# EAGLE library part 64902221022 (library Wire_to_Board_Connectors_rev15d)
WR-MPC4-4.20mm Male Dual Row Angled Header with Mounting Flanges for Screw-in Retention,22 pins=>Code : Con_WTB_MPC4_2_PCB_64902221022 <http://katalog.we-online.de/media/thumbs2/eican/thb_Con_WTB_MPC4_2_PCB_6490xx21022_pf2.jpg> Details see: http://katalog.we-online.de/en/em/649_0xx_210_22 Created 2014-06-06, Karrer Zheng 2014 (C) Würth Elektronik
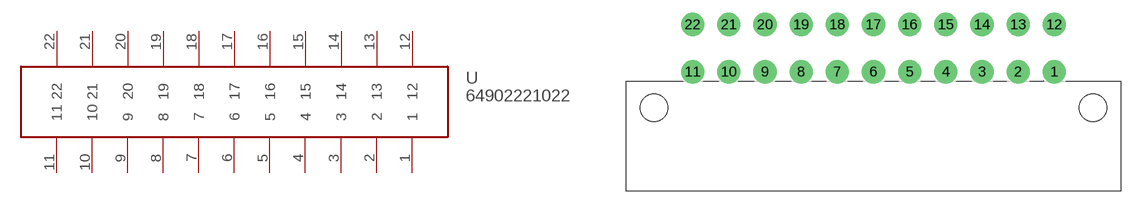
[diagram p315: symbol with the pads of 64902221022; footprint 64902221022]

Designator prefix -

## 64902221022  [64902221022]
1  1
2  2
3  3
4  4
5  5
6  6
7  7
8  8
9  9
10  10
11  11
12  12
13  13
14  14
15  15
16  16
17  17
18  18
19  19
20  20
21  21
22  22

## Footprint 64902221022 (pad centres in mm)
WR-MPC4-4.20mm Male Dual Row Angled Header with Mounting Flanges for Screw-in Retention,22 pins
drill 1.8: 1 21,4.2; 2 16.8,4.2; 3 12.6,4.2; 4 8.4,4.2; 5 4.2,4.2; 6 0,4.2; 7 -4.2,4.2; 8 -8.4,4.2; 9 -12.6,4.2; 10 -16.8,4.2; 11 -21,4.2; 12 21,9.7; 13 16.8,9.7; 14 12.6,9.7; 15 8.4,9.7; 16 4.2,9.7; 17 0,9.7; 18 -4.2,9.7; 19 -8.4,9.7; 20 -12.6,9.7; 21 -16.8,9.7; 22 -21,9.7
hole 3.2 at -25.5,0
hole 3.2 at 25.5,0